# Altium footprint library ICS_SMD.PcbLib: 9 footprints
Each footprint in its own frame and in the unit in brackets; x right, y up, seen from the top. Pads: shape width x height; smd on the part's side, far side on the other; paste and mask are expansions set on the pad; w line width, h text height; cw(c..) or ccw(c..) is an arc to the next point about the centre after c.
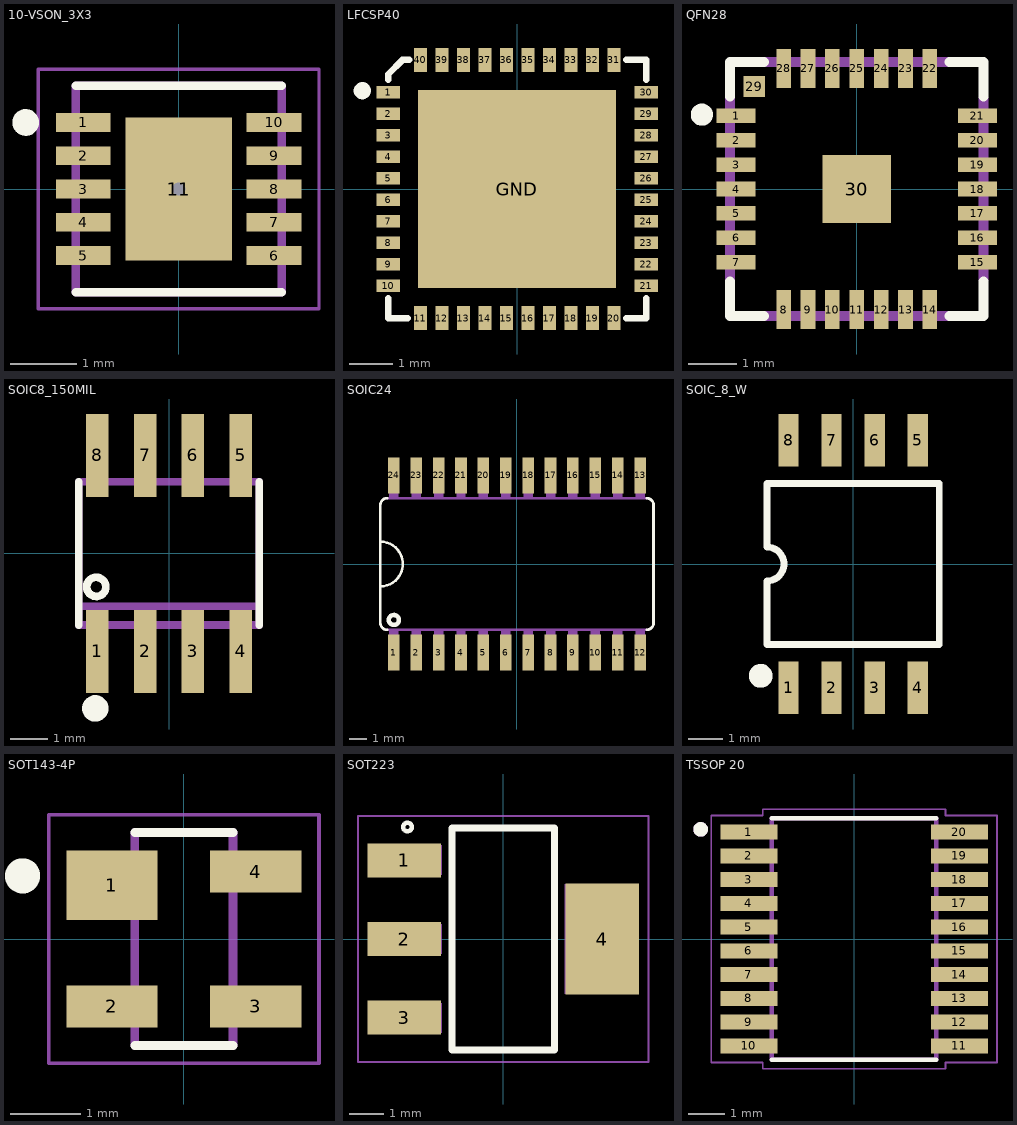
[diagram p0: the footprints below, top view; thin cyan lines are the x and y axes]

## 10-VSON_3X3 [mm]
pads (11):
  rect 0.825x0.28 smd: 1(-1.435,1) 2(-1.435,0.5) 3(-1.435,0) 4(-1.435,-0.5) 5(-1.435,-1) 6(1.435,-1) 7(1.435,-0.5) 8(1.435,0) 9(1.435,0.5) 10(1.435,1)
  rect 1.6x2.15 hole 0.2: 11(0,0)
Top Overlay:
  circle w0.2: c-2.3,1 r0.1
  lines w0.127: -1.55,-1.55 1.55,-1.55 ; -1.55,1.55 1.55,1.55
Top Paste:
  region: -0.62,0.9 -0.09,0.9 -0.09,0.09 -0.62,0.09
  region: 0.62,-0.9 0.09,-0.9 0.09,-0.09 0.62,-0.09
  region: -0.09,-0.9 -0.62,-0.9 -0.62,-0.09 -0.09,-0.09
Mechanical 4:
  lines w0.127: -1.55,-1.55 1.55,-1.55 ; -1.55,-1.55 -1.55,1.55 ; -1.55,-1.55 1.55,-1.55 ; -1.55,-1.55 -1.55,1.55 ; -1.55,1.55 1.55,1.55 ; -1.55,1.55 1.55,1.55 ; 1.55,-1.55 1.55,1.55 ; 1.55,-1.55 1.55,1.55
Mechanical 16:
  lines w0.05: -2.11,-1.8 2.11,-1.8 2.11,1.8 -2.11,1.8 -2.11,-1.8
3D body "10_VSON-DRC10-2.STEP": height 1, standoff 0, extent -1.55,-1.574 1.57,1.55

## LFCSP40 [mm]
pads (41):
  rect 0.55x0.3 smd: 1(-3,2.25) 2(-3,1.75) 3(-3,1.25) 4(-3,0.75) 5(-3,0.25) 6(-3,-0.25) 7(-3,-0.75) 8(-3,-1.25) 9(-3,-1.75) 10(-3,-2.25) 21(3,-2.25) 22(3,-1.75) 23(3,-1.25) 24(3,-0.75) 25(3,-0.25) 26(3,0.25) 27(3,0.75) 28(3,1.25) 29(3,1.75) 30(3,2.25)
  rect 0.3x0.55 smd: 11(-2.25,-3) 12(-1.75,-3) 13(-1.25,-3) 14(-0.75,-3) 15(-0.25,-3) 16(0.25,-3) 17(0.75,-3) 18(1.25,-3) 19(1.75,-3) 20(2.25,-3) 31(2.25,3) 32(1.75,3) 33(1.25,3) 34(0.75,3) 35(0.25,3) 36(-0.25,3) 37(-0.75,3) 38(-1.25,3) 39(-1.75,3) 40(-2.25,3)
  rect 4.6x4.6 smd: GND(0,0)
Top Overlay:
  circle w0.2: c-3.6,2.286 r0.1
  lines w0.15: -3,-2.54 -3,-3 -2.54,-3 ; -3,2.54 -3,2.667 -2.667,3 -2.51,3 ; 2.54,-3 3,-3 3,-2.54 ; 2.54,3 3,3 3,2.54
Top Paste:
  region: -2.286,2.286 2.286,2.286 2.286,-2.286 -2.286,-2.286
  lines w0.102: -2.35,-2.975 -2.15,-2.975 ; 2.15,2.975 2.35,2.975 ; 2.975,2.15 2.975,2.35
  lines w0.254: -1.85,-1.85 1.85,-1.85 1.85,1.85 -1.85,1.85 -1.85,-1.85
Top Solder:
  region: -2.286,2.286 2.286,2.286 2.286,-2.286 -2.286,-2.286
  lines w0.102: -2.388,-3.013 -2.113,-3.013 ; 2.113,3.013 2.388,3.013 ; 3.013,2.113 3.013,2.388
  lines w0.254: -1.863,-1.863 1.863,-1.863 1.863,1.863 -1.863,1.863 -1.863,-1.863
Mechanical 4:
  circle w0: c-1.75,1.75 r0.353
  circle w0: c-1.75,1.75 r0.353
3D body: height 0.85, standoff 0.75, extent -2.473,2.076 -2.075,2.475
3D body: height 0.8, standoff 0, extent -3,-3 3,3

## QFN28 [mm]
pads (30):
  rect 0.8x0.3 smd: 1(-2.475,1.5) 2(-2.475,1) 3(-2.475,0.5) 4(-2.475,0) 5(-2.475,-0.5) 6(-2.475,-1) 7(-2.475,-1.5) 15(2.475,-1.5) 16(2.475,-1) 17(2.475,-0.5) 18(2.475,0) 19(2.475,0.5) 20(2.475,1) 21(2.475,1.5)
  rect 0.3x0.8 smd: 8(-1.5,-2.475) 9(-1,-2.475) 10(-0.5,-2.475) 11(0,-2.475) 12(0.5,-2.475) 13(1,-2.475) 14(1.5,-2.475) 22(1.5,2.475) 23(1,2.475) 24(0.5,2.475) 25(0,2.475) 26(-0.5,2.475) 27(-1,2.475) 28(-1.5,2.475)
  rect 0.435x0.435 smd: 29(-2.1,2.1)
  rect 1.4x1.4 smd: 30(0,0)
Top Overlay:
  circle w0.254: c-3.175,1.524 r0.1
  lines w0.203: -2.6,-1.9 -2.6,-2.6 -1.9,-2.6 ; -2.6,1.9 -2.6,2.6 -1.9,2.6 ; 1.9,-2.6 2.6,-2.6 2.6,-1.9 ; 1.9,2.6 2.6,2.6 2.6,1.9
Top Paste:
  region: -1.25,1.25 -0.75,1.25 -0.75,0.75 -1.25,0.75
  region: -0.25,1.25 0.25,1.25 0.25,0.75 -0.25,0.75
  region: 0.751,1.25 1.25,1.25 1.25,0.751 0.751,0.751
  region: 0.751,0.25 1.25,0.25 1.25,-0.25 0.751,-0.25
  region: -1.251,0.25 -0.75,0.25 -0.75,-0.25 -1.251,-0.25
  region: -1.251,-0.75 -0.75,-0.75 -0.75,-1.251 -1.251,-1.251
  region: -0.25,-0.75 0.25,-0.75 0.25,-1.252 -0.25,-1.252
  region: 0.75,-0.75 1.25,-0.75 1.25,-1.25 0.75,-1.25
Top Solder:
  region: -1.703,1.7 1.7,1.7 1.7,-1.703 -1.703,-1.703
Mechanical 4:
  lines w0.203: -2.6,-1.85 -2.6,1.85 -2.6,-1.85 ; -1.85,-2.6 1.85,-2.6 -1.85,-2.6 ; -1.85,2.6 1.85,2.6 -1.85,2.6 ; 2.6,-1.85 2.6,1.85 2.6,-1.85
3D body "User Library-QFN28-0_5.STEP": height 1, standoff 0, extent -2.5,-2.5 2.5,2.5

## SOIC8_150MIL [mm]
pads (8):
  rect 0.6x2.2 smd: 1(-1.905,-2.6) 2(-0.635,-2.6) 3(0.635,-2.6) 4(1.905,-2.6) 5(1.905,2.6) 6(0.635,2.6) 7(-0.635,2.6) 8(-1.905,2.6)
Top Overlay:
  circle w0.4: c-1.955,-4.114 r0.15
  circle w0.203: c-1.93,-0.889 r0.254
  lines w0.203: -2.4,-1.9 -2.4,1.9 ; 2.4,-1.9 2.4,1.9
Mechanical 4:
  region: -2.15,3.1 -1.66,3.1 -1.66,2 -2.15,2
  region: -0.88,3.1 -0.39,3.1 -0.39,2 -0.88,2
  region: 0.39,3.1 0.88,3.1 0.88,2 0.39,2
  region: 1.66,3.1 2.15,3.1 2.15,2 1.66,2
  region: 1.66,-2 2.15,-2 2.15,-3.1 1.66,-3.1
  region: 0.39,-2 0.88,-2 0.88,-3.1 0.39,-3.1
  region: -0.88,-2 -0.39,-2 -0.39,-3.1 -0.88,-3.1
  region: -2.15,-2 -1.66,-2 -1.66,-3.1 -2.15,-3.1
  region: -2.15,3.1 -1.66,3.1 -1.66,2 -2.15,2
  region: -0.88,3.1 -0.39,3.1 -0.39,2 -0.88,2
  region: 0.39,3.1 0.88,3.1 0.88,2 0.39,2
  region: 1.66,3.1 2.15,3.1 2.15,2 1.66,2
  region: 1.66,-2 2.15,-2 2.15,-3.1 1.66,-3.1
  region: 0.39,-2 0.88,-2 0.88,-3.1 0.39,-3.1
  region: -0.88,-2 -0.39,-2 -0.39,-3.1 -0.88,-3.1
  region: -2.15,-2 -1.66,-2 -1.66,-3.1 -2.15,-3.1
  lines w0.203: -2.4,-1.9 -2.4,-1.4 ; -2.4,-1.9 2.4,-1.9 ; -2.4,-1.9 -2.4,-1.4 ; -2.4,-1.9 2.4,-1.9 ; -2.4,-1.4 2.4,-1.4 ; -2.4,-1.4 -2.4,1.9 ; -2.4,-1.4 2.4,-1.4 ; -2.4,-1.4 -2.4,1.9 ; -2.4,1.9 2.4,1.9 ; -2.4,1.9 2.4,1.9 ; 2.4,-1.9 2.4,-1.4 ; 2.4,-1.9 2.4,-1.4 ; 2.4,-1.4 2.4,1.9 ; 2.4,-1.4 2.4,1.9
3D body "User Library-SOIC-8-150.STEP": height 1.75, standoff 0, extent -2.5,-3.1 2.5,3.1

## SOIC24 [mil]
pads (24):
  rect 26x80 smd: 1(-275,-198) 2(-225,-198) 3(-175,-198) 4(-125,-198) 5(-75,-198) 6(-25,-198) 7(25,-198) 8(75,-198) 9(125,-198) 10(175,-198) 11(225,-198) 12(275,-198) 13(275,198) 14(225,198) 15(175,198) 16(125,198) 17(75,198) 18(25,198) 19(-25,198) 20(-75,198) 21(-125,198) 22(-175,198) 23(-225,198) 24(-275,198)
Top Overlay:
  circle w10: c-275,-125 r11.18
  lines w6: -290,-147 cw(c-290,-132) -305,-132 -305,-50 ; -290,147 ccw(c-290,132) -305,132 -305,50 ; 290,-147 ccw(c290,-132) 305,-132 305,132 ccw(c290,132) 290,147 ; -305,-50 ccw(c-305,0) -305,50 ; -305,-50 -305,50
Mechanical 4:
  drawing of 100 lines, arcs and shapes, not listed
3D body "User Library-SOIC_24-300.STEP": height 102.36, standoff 0, extent -300,-205 306.3,204.45

## SOIC_8_W [mm]
pads (8):
  rect 0.6x1.55 smd: 1(-1.905,-3.65) 2(-0.635,-3.65) 3(0.635,-3.65) 4(1.905,-3.65) 5(1.905,3.65) 6(0.635,3.65) 7(-0.635,3.65) 8(-1.905,3.65)
Top Overlay:
  circle w0.5: c-2.725,-3.3 r0.1
  lines w0.203: -2.54,-2.38 -2.54,-0.5 ccw(c-2.54,0) -2.54,0.5 -2.54,2.38 2.54,2.38 2.54,-2.38 -2.54,-2.38
3D body "User Library-SOIC8_Wide_5mmx5mm.STEP": height 1.75, standoff -0.01, extent -2.73,-4.051 2.73,4.05

## SOT143-4P [mm]
pads (4):
  rect 1.3x0.99 smd: 1(-1.025,0.765)
  rect 1.3x0.6 smd: 2(-1.025,-0.96) 3(1.025,-0.96) 4(1.025,0.96)
Top Overlay:
  circle w0.4: c-2.3,0.9 r0.05
  lines w0.127: -0.7,-1.52 0.7,-1.52 ; -0.7,1.52 0.7,1.52
Mechanical 4:
  lines w0.127: -0.7,-1.52 -0.7,1.52 ; -0.7,-1.52 0.7,-1.52 ; -0.7,-1.52 -0.7,1.52 ; -0.7,-1.52 0.7,-1.52 ; -0.7,1.52 0.7,1.52 ; -0.7,1.52 0.7,1.52 ; 0.7,-1.52 0.7,1.52 ; 0.7,-1.52 0.7,1.52
Mechanical 16:
  lines w0.05: -1.925,-1.77 -1.925,1.77 1.925,1.77 1.925,-1.77 -1.925,-1.77
3D body "User Library-SOT143-1.STEP": height 1.22, standoff 0, extent -1.181,-1.45 1.182,1.45

## SOT223 [mm]
pads (4):
  rect 2.15x1 smd: 1(-2.9,2.3) 2(-2.9,0) 3(-2.9,-2.3)
  rect 2.15x3.25 smd: 4(2.9,0)
Top Overlay:
  circle w0.127: c-2.802,3.275 r0.127
  lines w0.203: -1.5,-3.25 -1.5,3.25 1.5,3.25 1.5,-3.25 -1.5,-3.25
Mechanical 4:
  region: -1.803,-1.88 -1.803,-2.746 -3.66,-2.746 -3.66,-1.88
  region: -1.807,2.747 -1.807,1.878 -3.659,1.878 -3.659,2.747
  region: -1.804,0.432 -1.804,-0.433 -3.659,-0.433 -3.659,0.432
  region: 3.659,1.599 3.659,-1.6 1.804,-1.6 1.804,1.599
  region: -1.803,-1.88 -1.803,-2.746 -3.661,-2.746 -3.661,-1.88
  region: -1.806,2.746 -1.806,1.879 -3.659,1.879 -3.659,2.746
  region: -1.804,0.432 -1.804,-0.433 -3.658,-0.433 -3.658,0.432
  region: 3.66,1.598 3.66,-1.6 1.804,-1.6 1.804,1.598
  region: -1.803,-1.88 -1.803,-2.746 -3.66,-2.746 -3.66,-1.88
  region: -1.807,2.747 -1.807,1.878 -3.659,1.878 -3.659,2.747
  region: -1.804,0.432 -1.804,-0.433 -3.659,-0.433 -3.659,0.432
  region: 3.659,1.599 3.659,-1.6 1.804,-1.6 1.804,1.599
  region: -1.803,-1.88 -1.803,-2.746 -3.661,-2.746 -3.661,-1.88
  region: -1.806,2.746 -1.806,1.879 -3.659,1.879 -3.659,2.746
  region: -1.804,0.432 -1.804,-0.433 -3.658,-0.433 -3.658,0.432
  region: 3.66,1.598 3.66,-1.6 1.804,-1.6 1.804,1.598
Mechanical 16:
  lines w0.05: -4.25,-3.6 -4.25,3.6 4.25,3.6 4.25,-3.6 -4.25,-3.6
3D body "CircuitWorks-SOT-223.STEP": height 1.65, standoff -0.03, extent -3.48,-3.25 3.48,3.25

## TSSOP 20 [mm]
pads (20):
  rect 1.56x0.41 smd: 1(-2.88,2.925) 2(-2.88,2.275) 3(-2.88,1.625) 4(-2.88,0.975) 5(-2.88,0.325) 6(-2.88,-0.325) 7(-2.88,-0.975) 8(-2.88,-1.625) 9(-2.88,-2.275) 10(-2.88,-2.925) 11(2.88,-2.925) 12(2.88,-2.275) 13(2.88,-1.625) 14(2.88,-0.975) 15(2.88,-0.325) 16(2.88,0.325) 17(2.88,0.975) 18(2.88,1.625) 19(2.88,2.275) 20(2.88,2.925)
Top Overlay:
  circle w0.2: c-4.2,3 r0.1
  lines w0.127: -2.25,-3.3 2.25,-3.3 ; -2.25,3.3 2.25,3.3
Mechanical 4:
  circle w0.2: c-4.2,3 r0.1
  circle w0.2: c-4.2,3 r0.1
  lines w0.127: -2.25,-3.3 2.25,-3.3 ; -2.25,-3.3 -2.25,3.3 ; -2.25,-3.3 2.25,-3.3 ; -2.25,-3.3 -2.25,3.3 ; -2.25,3.3 2.25,3.3 ; -2.25,3.3 2.25,3.3 ; 2.25,-3.3 2.25,3.3 ; 2.25,-3.3 2.25,3.3
Mechanical 16:
  lines w0.05: -3.91,-3.38 -2.5,-3.38 -2.5,-3.55 2.5,-3.55 2.5,-3.38 3.91,-3.38 3.91,3.38 2.5,3.38 2.5,3.55 -2.5,3.55 -2.5,3.38 -3.91,3.38 -3.91,-3.38
3D body "User Library-TSSOP-20-2.STEP": height 1.2, standoff 0, extent -3.175,-3.25 3.225,3.25